# EAGLE library part EC2-5NU (library EC2-5NU)
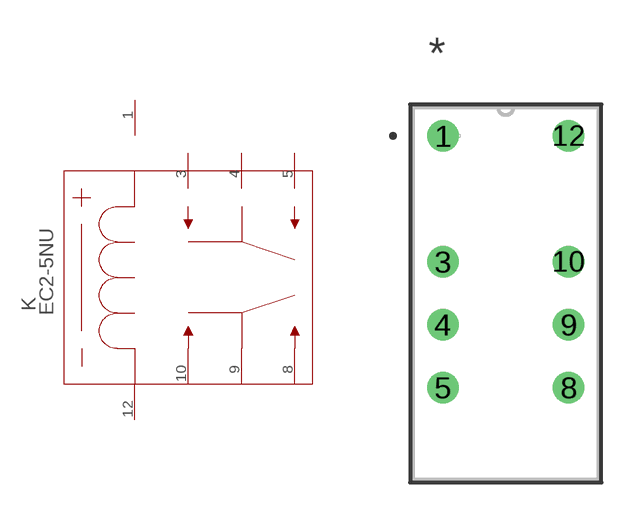
[diagram p0: symbol with the pads of EC2NU; footprint EC2NU]

Designator prefix K

## EC2-5NU (BUILT_BY: EMA_UL_Team; MANUFACTURER_PART_NUMBER: EC2-5NU; VENDOR: KEMET)  [EC2NU]
1  1  pas
3  2  pas
4  3  pas
5  4  pas
8  5  pas
9  6  pas
10  7  pas
12  8  pas

## Footprint EC2NU (pad centres in mm)
drill 0.762 pad 1.27: 1 -5.08,12.725; 3 -5.08,7.645; 4 -5.08,5.105; 5 -5.08,2.565; 8 0,2.565; 9 0,5.105; 10 0,7.645; 12 0,12.725